# Altium schematic symbol library Jumper.SchLib: 1 symbol
Pins are listed as number, name and electrical type; pins without a type are passive.

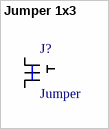
[diagram p0: symbol Jumper 1x3]

## Jumper 1x3
designator J?, comment Jumper
Jumper 1x3; Catalog: *; Catalog number: *; Catalog page: *; Value: *
pins: 1, 2, 3